# Altium footprint library Capacitor - Electrolytic.PcbLib: 177 footprints (part 4 of 12)
Each footprint in its own frame and in the unit in brackets; x right, y up, seen from the top. Pads: shape width x height; smd on the part's side, far side on the other; paste and mask are expansions set on the pad; w line width, h text height; cw(c..) or ccw(c..) is an arc to the next point about the centre after c.
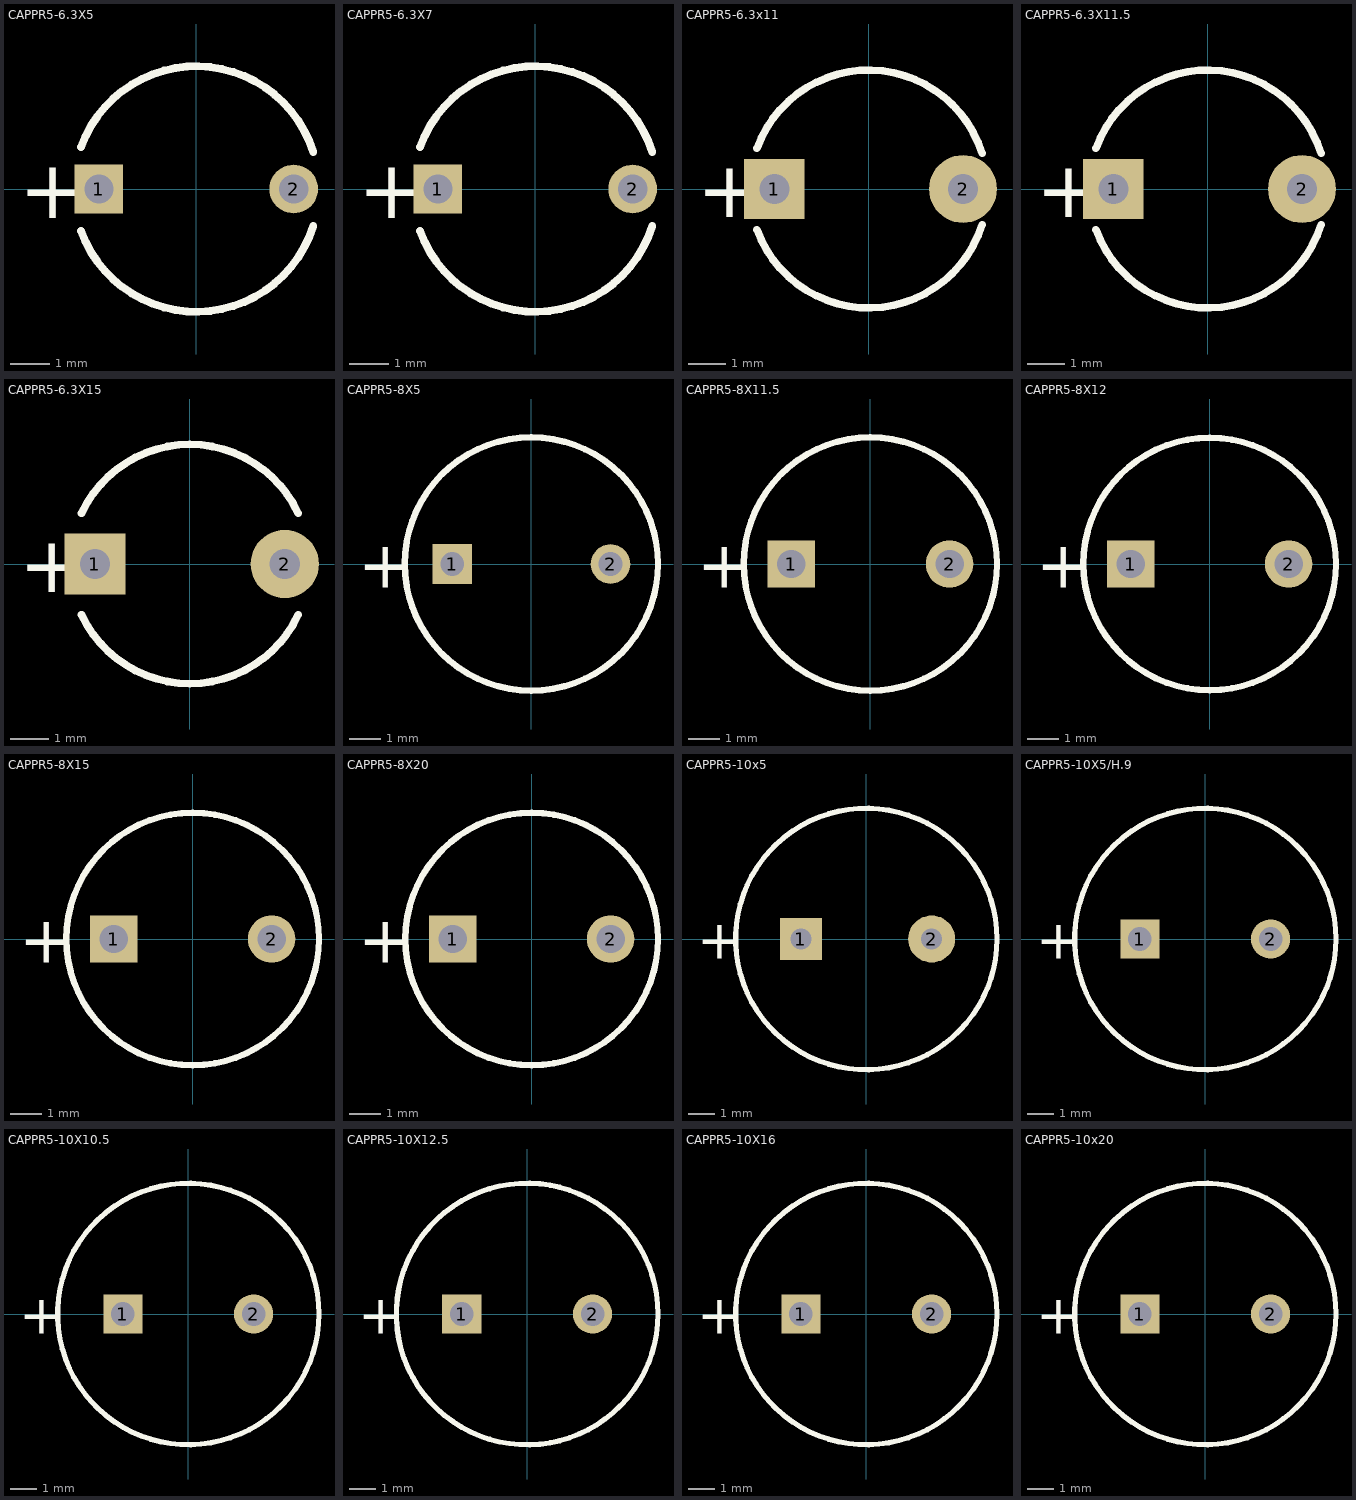
[diagram p3: the footprints below, top view; thin cyan lines are the x and y axes]

## CAPPR5-6.3X5 [mm]
pads (2):
  rect 1.25x1.25 hole 0.75: 1(-2.5,0)
  round 1.25 hole 0.75: 2(2.5,0)
Top Overlay:
  lines w0.2: -2.961,-1.075 ccw(c0,0) 3.003,-0.95 ; -2.961,1.075 cw(c0,0) 3.003,0.95
  text "+" at -4.55,-0.75 h1.5
3D body: height 5, standoff 0.3, extent -3.215,-3.215 3.215,3.215

## CAPPR5-6.3X7 [mm]
pads (2):
  rect 1.25x1.25 hole 0.75: 1(-2.5,0)
  round 1.25 hole 0.75: 2(2.5,0)
Top Overlay:
  lines w0.2: -2.961,-1.075 ccw(c0,0) 3.003,-0.95 ; -2.961,1.075 cw(c0,0) 3.003,0.95
  text "+" at -4.55,-0.75 h1.5
3D body: height 7, standoff 0.3, extent -3.215,-3.215 3.215,3.215

## CAPPR5-6.3x11 [mm]
pads (2):
  rect 1.6x1.6 hole 0.8: 1(-2.5,0)
  round 1.8 hole 0.8: 2(2.5,0)
Top Overlay:
  lines w0.2: -2.961,-1.075 ccw(c0,0) 3.003,-0.95 ; -2.961,1.075 cw(c0,0) 3.003,0.95
  text "+" at -4.55,-0.75 h1.5
3D body: height 11, standoff 0.3, extent -3.215,-3.215 3.215,3.215

## CAPPR5-6.3X11.5 [mm]
pads (2):
  rect 1.6x1.6 hole 0.8: 1(-2.5,0)
  round 1.8 hole 0.8: 2(2.5,0)
Top Overlay:
  lines w0.2: -2.961,-1.075 ccw(c0,0) 3.003,-0.95 ; -2.961,1.075 cw(c0,0) 3.003,0.95
  text "+" at -4.55,-0.75 h1.5
3D body: height 11.5, standoff 0.3, extent -3.215,-3.215 3.215,3.215

## CAPPR5-6.3X15 [mm]
pads (2):
  rect 1.6x1.6 hole 0.8: 1(-2.5,0)
  round 1.8 hole 0.8: 2(2.5,0)
Top Overlay:
  lines w0.2: -2.855,-1.331 ccw(c0,0) 2.855,-1.331 ; -2.855,1.331 cw(c0,0) 2.855,1.331
  text "+" at -4.5,-0.75 h1.5
3D body: height 15, standoff 0.3, extent -3.215,-3.215 3.215,3.215

## CAPPR5-8X5 [mm]
pads (2):
  rect 1.25x1.25 hole 0.75: 1(-2.5,0)
  round 1.25 hole 0.75: 2(2.5,0)
Top Overlay:
  circle w0.2: c0,0 r4
  text "+" at -5.475,-0.75 h1.5
3D body: height 5, standoff 0.3, extent -4.062,-4.062 4.062,4.062

## CAPPR5-8X11.5 [mm]
pads (2):
  rect 1.5x1.5 hole 0.9: 1(-2.5,0)
  round 1.5 hole 0.9: 2(2.5,0)
Top Overlay:
  circle w0.2: c0,0 r4
  text "+" at -5.475,-0.75 h1.5
3D body: height 11.5, standoff 0.3, extent -4.062,-4.062 4.062,4.062

## CAPPR5-8X12 [mm]
pads (2):
  rect 1.5x1.5 hole 0.9: 1(-2.5,0)
  round 1.5 hole 0.9: 2(2.5,0)
Top Overlay:
  circle w0.2: c0,0 r4
  text "+" at -5.5,-0.752 h1.5
3D body: height 12, standoff 0.3, extent -4.062,-4.062 4.062,4.062

## CAPPR5-8X15 [mm]
pads (2):
  rect 1.5x1.5 hole 0.9: 1(-2.5,0)
  round 1.5 hole 0.9: 2(2.5,0)
Top Overlay:
  circle w0.2: c0,0 r4
  text "+" at -5.5,-0.752 h1.5
3D body: height 15, standoff 0.3, extent -4.062,-4.062 4.062,4.062

## CAPPR5-8X20 [mm]
pads (2):
  rect 1.5x1.5 hole 0.9: 1(-2.5,0)
  round 1.5 hole 0.9: 2(2.5,0)
Top Overlay:
  circle w0.2: c0,0 r4
  text "+" at -5.5,-0.752 h1.5
3D body: height 20, standoff 0.3, extent -4.062,-4.062 4.062,4.062

## CAPPR5-10x5 [mm]
pads (2):
  rect 1.6x1.6 hole 0.8: 1(-2.5,0)
  round 1.8 hole 0.8: 2(2.5,0)
Top Overlay:
  circle w0.2: c0,0 r5
  text "+" at -6.475,-0.75 h1.5
3D body: height 5.5, standoff 0.5, extent -5.01,-5.01 5.01,5.01

## CAPPR5-10X5/H.9 [mm]
pads (2):
  rect 1.5x1.5 hole 0.9: 1(-2.5,0)
  round 1.5 hole 0.9: 2(2.5,0)
Top Overlay:
  circle w0.2: c0,0 r5
  text "+" at -6.475,-0.75 h1.5
3D body: height 5, standoff 0.5, extent -5.01,-5.01 5.01,5.01

## CAPPR5-10X10.5 [mm]
pads (2):
  rect 1.5x1.5 hole 0.9: 1(-2.5,0)
  round 1.5 hole 0.9: 2(2.5,0)
Top Overlay:
  circle w0.2: c0,0 r5
  text "+" at -6.475,-0.75 h1.5
3D body: height 10.5, standoff 0.5, extent -5.01,-5.01 5.01,5.01

## CAPPR5-10X12.5 [mm]
pads (2):
  rect 1.5x1.5 hole 0.9: 1(-2.5,0)
  round 1.5 hole 0.9: 2(2.5,0)
Top Overlay:
  circle w0.2: c0,0 r5
  text "+" at -6.465,-0.75 h1.5
3D body: height 12.5, standoff 0.5, extent -5.01,-5.01 5.01,5.01

## CAPPR5-10X16 [mm]
pads (2):
  rect 1.5x1.5 hole 0.9: 1(-2.5,0)
  round 1.5 hole 0.9: 2(2.5,0)
Top Overlay:
  circle w0.2: c0,0 r5
  text "+" at -6.475,-0.75 h1.5
3D body: height 16, standoff 0.5, extent -4.971,-5.062 5.049,4.958

## CAPPR5-10x20 [mm]
pads (2):
  rect 1.5x1.5 hole 0.9: 1(-2.5,0)
  round 1.5 hole 0.9: 2(2.5,0)
Top Overlay:
  circle w0.2: c0,0 r5
  text "+" at -6.475,-0.75 h1.5
3D body: height 20, standoff 0.5, extent -5.01,-5.01 5.01,5.01